# Altium footprint library FX18-120S-0.8SV15.PcbLib: 1 footprints
Each footprint in its own frame and in the unit in brackets; x right, y up, seen from the top. Pads: shape width x height; smd on the part's side, far side on the other; paste and mask are expansions set on the pad; w line width, h text height; cw(c..) or ccw(c..) is an arc to the next point about the centre after c.
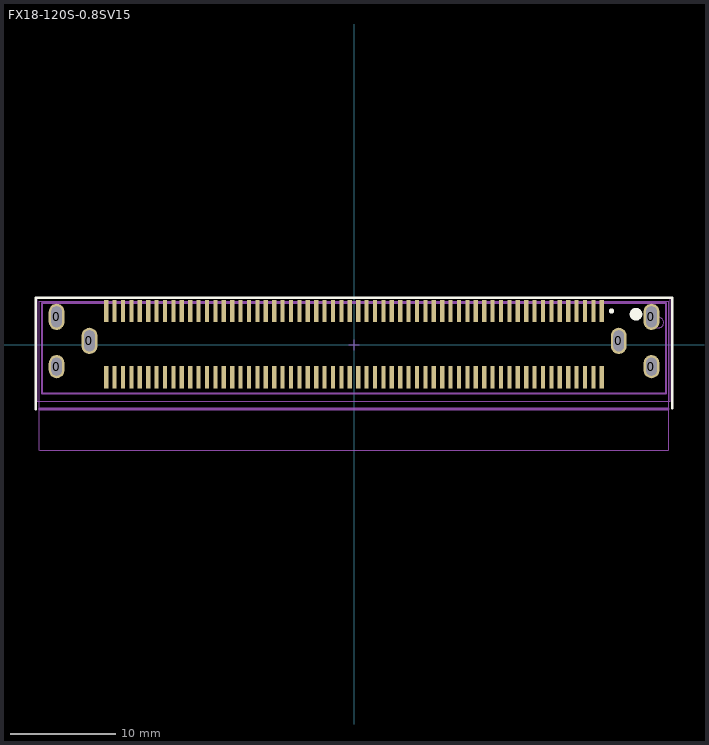
[diagram p0: the footprint, top view; thin cyan lines are the x and y axes]

## FX18-120S-0.8SV15 [mm] "Розетка 120 контактов"
height 3.1
pads (126):
  oval 1.5x2.5 hole 1 slot 2 at 90 deg: 0(-28.321,2.679) 0(-25.191,0.39) 0(25.209,0.389) 0(28.329,2.679)
  oval 1.5x2.2 hole 1 slot 1.7 at 90 deg: 0(-28.32,-2.071) 0(28.329,-2.071)
  rect 0.4x2.1 smd: 1(23.6,3.225) 2(22.8,3.225) 3(22,3.225) 4(21.2,3.225) 5(20.4,3.225) 6(19.6,3.225) 7(18.8,3.225) 8(18,3.225) 9(17.2,3.225) 10(16.4,3.225) 11(15.6,3.225) 12(14.8,3.225) 13(14,3.225) 14(13.2,3.225) 15(12.4,3.225) 16(11.6,3.225) 17(10.8,3.225) 18(10,3.225) 19(9.2,3.225) 20(8.4,3.225) 21(7.6,3.225) 22(6.8,3.225) 23(6,3.225) 24(5.2,3.225) 25(4.4,3.225) 26(3.6,3.225) 27(2.8,3.225) 28(2,3.225) 29(1.2,3.225) 30(0.4,3.225) 31(-0.4,3.225) 32(-1.2,3.225) 33(-2,3.225) 34(-2.8,3.225) 35(-3.6,3.225) 36(-4.4,3.225) 37(-5.2,3.225) 38(-6,3.225) 39(-6.8,3.225) 40(-7.6,3.225) 41(-8.4,3.225) 42(-9.2,3.225) 43(-10,3.225) 44(-10.8,3.225) 45(-11.6,3.225) 46(-12.4,3.225) 47(-13.2,3.225) 48(-14,3.225) 49(-14.8,3.225) 50(-15.6,3.225) 51(-16.4,3.225) 52(-17.2,3.225) 53(-18,3.225) 54(-18.8,3.225) 55(-19.6,3.225) 56(-20.4,3.225) 57(-21.2,3.225) 58(-22,3.225) 59(-22.8,3.225) 60(-23.6,3.225) 61(23.6,-3.075) 62(22.8,-3.075) 63(22,-3.075) 64(21.2,-3.075) 65(20.4,-3.075) 66(19.6,-3.075) 67(18.8,-3.075) 68(18,-3.075) 69(17.2,-3.075) 70(16.4,-3.075) 71(15.6,-3.075) 72(14.8,-3.075) 73(14,-3.075) 74(13.2,-3.075) 75(12.4,-3.075) 76(11.6,-3.075) 77(10.8,-3.075) 78(10,-3.075) 79(9.2,-3.075) 80(8.4,-3.075) 81(7.6,-3.075) 82(6.8,-3.075) 83(6,-3.075) 84(5.2,-3.075) 85(4.4,-3.075) 86(3.6,-3.075) 87(2.8,-3.075) 88(2,-3.075) 89(1.2,-3.075) 90(0.4,-3.075) 91(-0.4,-3.075) 92(-1.2,-3.075) 93(-2,-3.075) 94(-2.8,-3.075) 95(-3.6,-3.075) 96(-4.4,-3.075) 97(-5.2,-3.075) 98(-6,-3.075) 99(-6.8,-3.075) 100(-7.6,-3.075) 101(-8.4,-3.075) 102(-9.2,-3.075) 103(-10,-3.075) 104(-10.8,-3.075) 105(-11.6,-3.075) 106(-12.4,-3.075) 107(-13.2,-3.075) 108(-14,-3.075) 109(-14.8,-3.075) 110(-15.6,-3.075) 111(-16.4,-3.075) 112(-17.2,-3.075) 113(-18,-3.075) 114(-18.8,-3.075) 115(-19.6,-3.075) 116(-20.4,-3.075) 117(-21.2,-3.075) 118(-22,-3.075) 119(-22.8,-3.075) 120(-23.6,-3.075)
Top Overlay:
  circle w0.6: c26.85,2.93 r0.3
  circle w0.25: c24.525,3.225 r0.125
  lines w0.254: -30.3,-6.1 -30.3,4.5 30.3,4.5 30.3,-6
Mechanical 1:
  lines w0.2: -29.7,-4.621 29.7,-4.621 29.7,3.999 -29.7,3.999 -29.7,-4.621
Mechanical 13:
  circle w0.1: c29,2.13 r0.5
  lines w0.1: -29.95,-10.015 -29.95,4.17 29.95,4.17 29.95,-10.014 ; -29.95,-6.095 -29.924,-6.121 ; -29.924,-10.041 29.923,-10.041
  lines w0.254: -29.95,-6.095 29.897,-6.095
Mechanical 15:
  lines w0.1: -0.5,0 0.5,0 ; 0,-0.5 0,0.5 ; -30.15,-5.35 -30.15,4.51 30.11,4.51 30.11,-5.35 -30.15,-5.35
3D body: height 3.1, standoff 0.3, extent -29.95,-10.041 29.95,4.16